# Altium schematic symbol library TC2030-MCP-NL.SchLib: 1 symbol
Pins are listed as number, name and electrical type; pins without a type are passive.

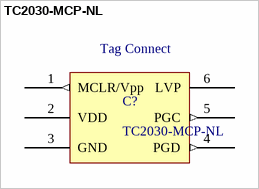
[diagram p0: symbol TC2030-MCP-NL]

## TC2030-MCP-NL
designator C?  Mfr 1: Tag Connect
Tag Connect programming connector
footprint PCBComponent_1
pins: 1 MCLR/Vpp (out), 2 VDD, 3 GND (power), 4 PGD (out), 5 PGC (out), 6 LVP